# EAGLE library part MAG3110 (library ANIMAlib)
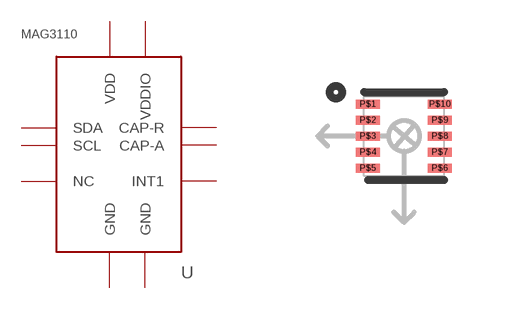
[diagram p21: symbol with the pads of DFN-10_FREE; footprint DFN-10_FREE]

Designator prefix U

## MAG3110  [DFN-10_FREE]
P$1  CAP-A  pas
P$2  VDD  pas
P$3  NC  pas
P$4  CAP-R  pas
P$5  GND  pas
P$6  SDA  pas
P$7  SCL  pas
P$8  VDDIO  pas
P$9  INT1  pas
P$10  GND  pas

## Footprint DFN-10_FREE (pad centres in mm)
smd 0.6 x 0.225: P$1 -0.9,0.8; P$2 -0.9,0.4; P$3 -0.9,0; P$4 -0.9,-0.4; P$5 -0.9,-0.8; P$6 0.9,-0.8; P$7 0.9,-0.4; P$8 0.9,0; P$9 0.9,0.4; P$10 0.9,0.8